# Altium schematic symbol library 691102710002.SchLib: 1 symbol
Pins are listed as number, name and electrical type; pins without a type are passive.

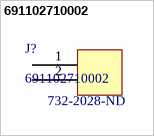
[diagram p0: symbol 691102710002]

## 691102710002
designator J?  Supplier Part Number 1: 732-2028-ND
2-POS screw terminal, 5mm pitch; Supplier 1: Digi-Key
footprint CON2_SCREW_5.00MM_691102710002 (2-Pos Screw terminal 5mm pitch)
pins: 1, 2